# EAGLE library part LM2695MH (library LM2695MH)
IC BUCK ADJ 1.25A
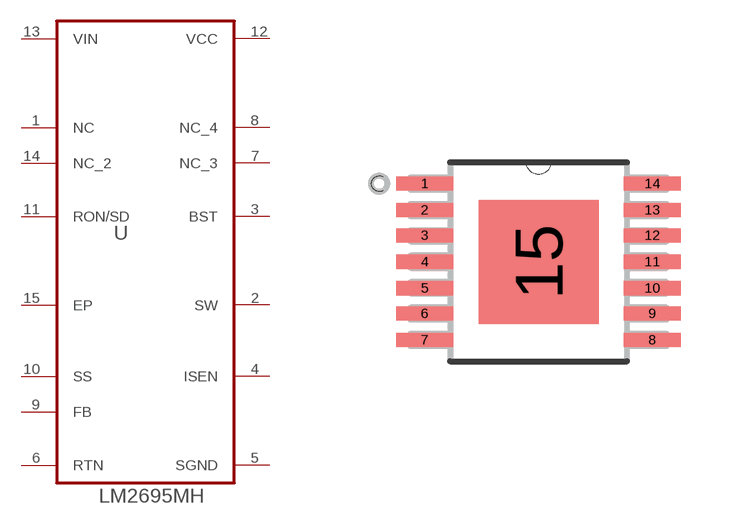
[diagram p0: symbol with the pads of SOP65P640X110-15N; footprint SOP65P640X110-15N]

Designator prefix U

## LM2695MH (DESCRIPTION: High Voltage _30V, 1.25A_ Step Down Switching Regulator 14-HTSSOP -40 to 125; DIGI-KEY_PART_NUMBER: LM2695MH/NOPB-ND; DIGI-KEY_PURCHASE_URL: https://www.digikey.se/product-detail/en/texas-instruments/LM2695MH-NOPB/LM2695MH-NOPB-ND/973743?utm_source=snapeda&utm_medium=aggregator&utm_campaign=symbol; MF: Texas Instruments; MP: LM2695MH/NOPB; PACKAGE: HTSSOP-14 Texas Instruments)  [SOP65P640X110-15N]
1  NC  pas
2  SW  out
3  BST  pas
4  ISEN  pas
5  SGND  pas
6  RTN  pas
7  NC_3  pas
8  NC_4  pas
9  FB  pas
10  SS  pas
11  RON/SD  pas
12  VCC  pas
13  VIN  in
14  NC_2  pas
15  EP  pas

## Footprint SOP65P640X110-15N (pad centres in mm)
smd 1.422 x 0.356: 1 -2.845,1.956; 2 -2.845,1.295; 3 -2.845,0.66; 4 -2.845,0; 5 -2.845,-0.66; 6 -2.845,-1.295; 7 -2.845,-1.956; 8 2.845,-1.956; 9 2.845,-1.295; 10 2.845,-0.66; 11 2.845,0; 12 2.845,0.66; 13 2.845,1.295; 14 2.845,1.956
smd 2.997 x 3.099: 15 0,0